# EAGLE library part SN65HVD3088ED (library OMAT_IC)
Low-Power RS-485 Transceivers, Available in a Small MSOP-8 Package
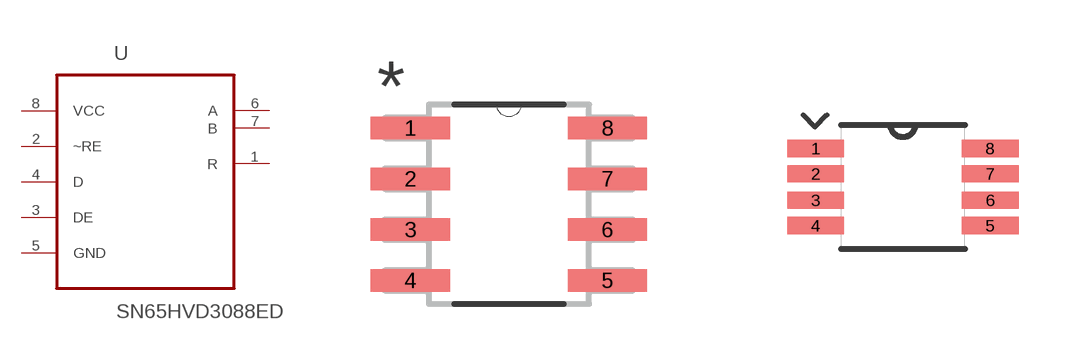
[diagram p11: symbol with the pads of SOIC127P600X175-8N; footprints SOIC127P600X175-8N, SOP65P490X110-8N]

Designator prefix U

## SN65HVD3088EDSOIC (MPN: SN65HVD3088ED; OC_FARNELL: 1390628; OC_NEWARK: 21J8895; PACKAGE: SOIC-8; SUPPLIER: Texas Instruments)  [SOIC127P600X175-8N]
1  R  out
2  ~RE  in
3  DE  in
4  D  in
5  GND  pas
6  A  out
7  B  out
8  VCC  pwr

## SN65HVD3088EDMSOP  [SOP65P490X110-8N]
Pads as for SOIC127P600X175-8N

## Footprint SOIC127P600X175-8N (pad centres in mm)
smd 1.981 x 0.559: 1 -2.464,1.905; 2 -2.464,0.635; 3 -2.464,-0.635; 4 -2.464,-1.905; 5 2.464,-1.905; 6 2.464,-0.635; 7 2.464,0.635; 8 2.464,1.905

## Footprint SOP65P490X110-8N (pad centres in mm)
smd 1.422 x 0.432: 1 -2.184,0.965; 2 -2.184,0.33; 3 -2.184,-0.33; 4 -2.184,-0.965; 5 2.184,-0.965; 6 2.184,-0.33; 7 2.184,0.33; 8 2.184,0.965